# Altium schematic symbol library optotriacs.SchLib: 5 symbols
Pins are listed as number, name and electrical type; pins without a type are passive.

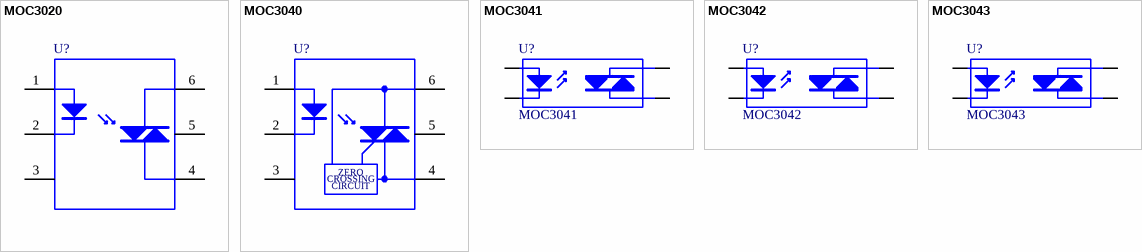
[diagram p0: symbols MOC3020 to MOC3043]

## MOC3020
designator U?
Random-Phase Opto-Triac; Published: 19-Feb-2006
footprint DIP6
footprint DIP6_SMD
pins: 1 Anode, 2 Cathode, 3 NC, 4 A/K "Main terminal", 5 NC "Substrate DO NOT CONNECT", 6 A/K "Main terminal"

## MOC3040
designator U?
Zero Voltage Crossing Opto-Triac; Published: 19-Feb-2006
footprint DIP6
footprint DIP6_SMD
pins: 1 Anode, 2 Cathode, 3 NC, 4 A/K "Main terminal", 5 NC "Substrate DO NOT CONNECT", 6 A/K "Main terminal"
text: ZERO; CROSSING; CIRCUIT

## MOC3041
designator U?
Zero-Cross Optoisolators Triac Driver Output, IFT = 15mA; Published: 24-Mar-1999; LatestRevisionDate: 17-Jul-2002; LatestRevisionNote: Re-released for DXP Platform.; PackageReference: NPSIP4A; Publisher: Altium Limited; PackageDescription: SIP; 4 Leads; Body 10 x 11.5 x 7.5 mm (typ); Pitch 2.54 mm
footprint DIP6
footprint DIP6_SMD
pins: 1 A, 2 K, 4 A/K, 6 A/K

## MOC3042
designator U?
Zero-Cross Optoisolators Triac Driver Output, IFT = 10mA; Published: 24-Mar-1999; LatestRevisionDate: 17-Jul-2002; LatestRevisionNote: Re-released for DXP Platform.; PackageReference: NPSIP4A; Publisher: Altium Limited; PackageDescription: SIP; 4 Leads; Body 10 x 11.5 x 7.5 mm (typ); Pitch 2.54 mm
footprint DIP6
footprint DIP6_SMD
pins: 1 A, 2 K, 4 A/K, 6 A/K

## MOC3043
designator U?
Zero-Cross Optoisolators Triac Driver Output, IFT = 5mA; Published: 24-Mar-1999; LatestRevisionDate: 17-Jul-2002; LatestRevisionNote: Re-released for DXP Platform.; PackageReference: NPSIP4A; Publisher: Altium Limited; PackageDescription: SIP; 4 Leads; Body 10 x 11.5 x 7.5 mm (typ); Pitch 2.54 mm
footprint DIP6
footprint DIP6_SMD
pins: 1 A, 2 K, 4 A/K, 6 A/K